# EAGLE library part DMX-DECODER (library dcc)
OpenDecoder3 (DMX, Watchdog), equal Tams SD22
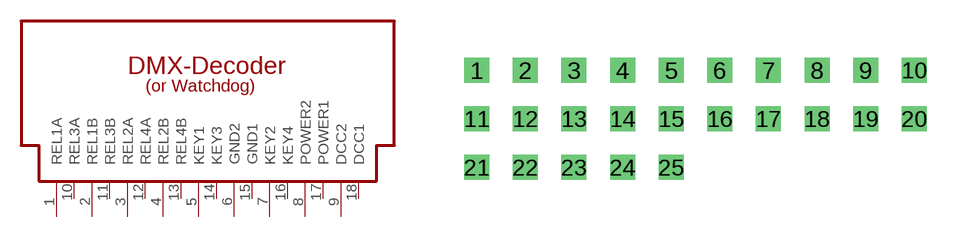
[diagram p3: symbol with the pads of DUMMY25; footprint DUMMY25]

Designator prefix -

## DMX-DECODER  [DUMMY25]
1  REL1A
2  REL1B
3  REL2A
4  REL2B
5  KEY1
6  GND2
7  KEY2
8  POWER2
9  DCC2
10  REL3A
11  REL3B
12  REL4A
13  REL4B
14  KEY3
15  GND1
16  KEY4
17  POWER1
18  DCC1

## Footprint DUMMY25 (pad centres in mm)
drill 0.8 square: 1 -11.43,0; 2 -8.89,0; 3 -6.35,0; 4 -3.81,0; 5 -1.27,0; 6 1.27,0; 7 3.81,0; 8 6.35,0; 9 8.89,0; 10 11.43,0; 11 -11.43,-2.54; 12 -8.89,-2.54; 13 -6.35,-2.54; 14 -3.81,-2.54; 15 -1.27,-2.54; 16 1.27,-2.54; 17 3.81,-2.54; 18 6.35,-2.54; 19 8.89,-2.54; 20 11.43,-2.54; 21 -11.43,-5.08; 22 -8.89,-5.08; 23 -6.35,-5.08; 24 -3.81,-5.08; 25 -1.27,-5.08